# Altium footprint library CONN 640455-3.PcbLib: 1 footprints
Each footprint in its own frame and in the unit in brackets; x right, y up, seen from the top. Pads: shape width x height; smd on the part's side, far side on the other; paste and mask are expansions set on the pad; w line width, h text height; cw(c..) or ccw(c..) is an arc to the next point about the centre after c.
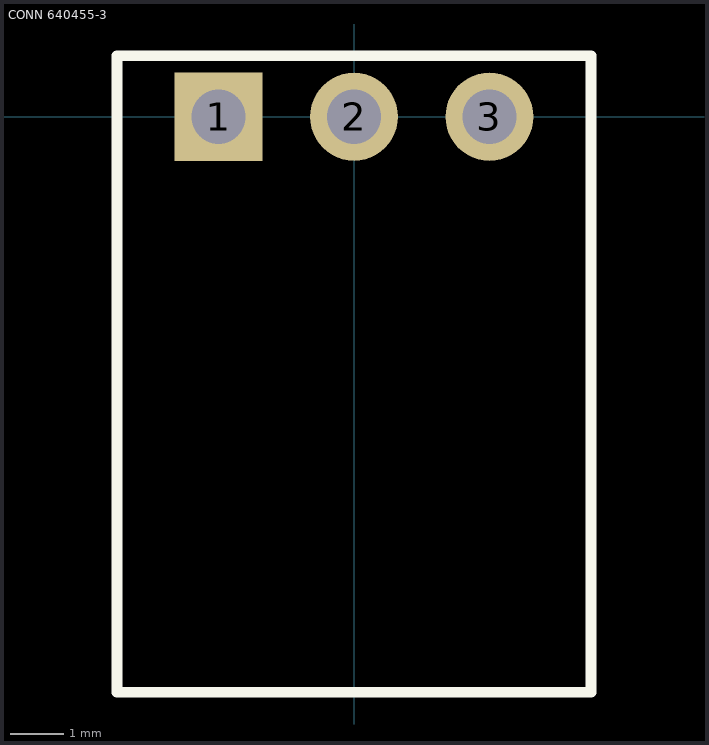
[diagram p0: the footprint, top view; thin cyan lines are the x and y axes]

## CONN 640455-3 [mil]
pads (3):
  rect 65x65 hole 40: 1(-100,0)
  round 65 hole 40: 2(0,0) 3(100,0)
Top Overlay:
  lines w7.87: -175,-425 -175,45 175,45 175,-425 -175,-425
3D body: height 252.5, standoff -142.5, extent -149.99,-419.99 150.01,15.01